# Altium schematic symbol library Flat_Cable.SchLib: 1 symbol
Pins are listed as number, name and electrical type; pins without a type are passive.

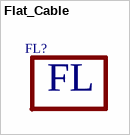
[diagram p0: symbol Flat_Cable]

## Flat_Cable
designator FL?
text: FL